# Altium footprint library TSQFP50P900X900X160-48N.PcbLib: 1 footprints
Each footprint in its own frame and in the unit in brackets; x right, y up, seen from the top. Pads: shape width x height; smd on the part's side, far side on the other; paste and mask are expansions set on the pad; w line width, h text height; cw(c..) or ccw(c..) is an arc to the next point about the centre after c.
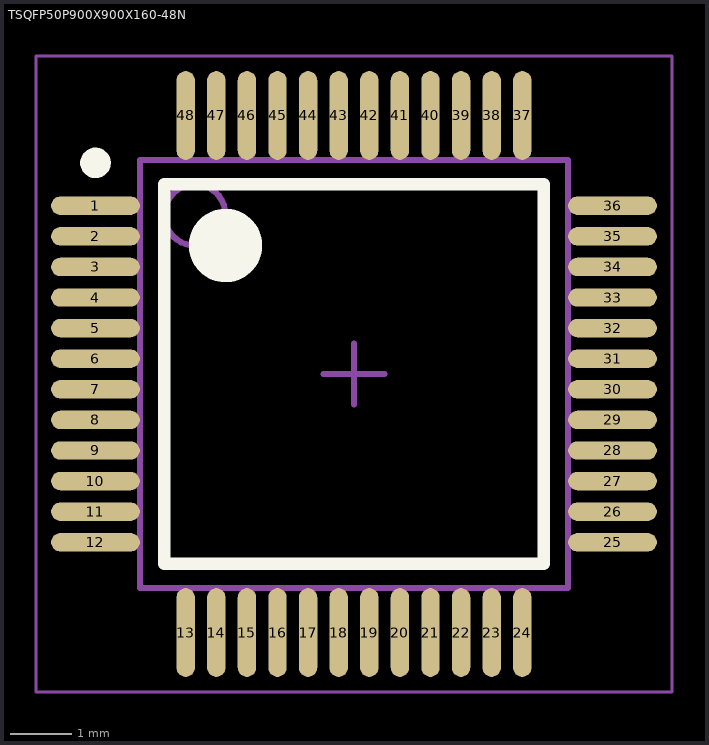
[diagram p0: the footprint, top view; thin cyan lines are the x and y axes]

## TSQFP50P900X900X160-48N [mm] "TSQFP, 48-Leads, Body 7.00x7.00mm, Pitch 0.50mm, IPC Medium Density"
height 1.6
pads (48):
  oval 1.45x0.3 smd: 1(-12.675,11.2) 2(-12.675,10.7) 3(-12.675,10.2) 4(-12.675,9.7) 5(-12.675,9.2) 6(-12.675,8.7) 7(-12.675,8.2) 8(-12.675,7.7) 9(-12.675,7.2) 10(-12.675,6.7) 11(-12.675,6.2) 12(-12.675,5.7) 25(-4.225,5.7) 26(-4.225,6.2) 27(-4.225,6.7) 28(-4.225,7.2) 29(-4.225,7.7) 30(-4.225,8.2) 31(-4.225,8.7) 32(-4.225,9.2) 33(-4.225,9.7) 34(-4.225,10.2) 35(-4.225,10.7) 36(-4.225,11.2)
  oval 0.3x1.45 smd: 13(-11.2,4.225) 14(-10.7,4.225) 15(-10.2,4.225) 16(-9.7,4.225) 17(-9.2,4.225) 18(-8.7,4.225) 19(-8.2,4.225) 20(-7.7,4.225) 21(-7.2,4.225) 22(-6.7,4.225) 23(-6.2,4.225) 24(-5.7,4.225) 37(-5.7,12.675) 38(-6.2,12.675) 39(-6.7,12.675) 40(-7.2,12.675) 41(-7.7,12.675) 42(-8.2,12.675) 43(-8.7,12.675) 44(-9.2,12.675) 45(-9.7,12.675) 46(-10.2,12.675) 47(-10.7,12.675) 48(-11.2,12.675)
Top Overlay:
  circle w0.6: c-10.55,10.55 r0.3
  circle w0.25: c-12.675,11.9 r0.125
  lines w0.2: -11.55,5.35 -5.35,5.35 -5.35,11.55 -11.55,11.55 -11.55,5.35
Top Assembly:
  circle w0.1: c-11.05,11.05 r0.5
  lines w0.1: -11.95,4.95 -4.95,4.95 -4.95,11.95 -11.95,11.95 -11.95,4.95
Top Courtyard:
  lines w0.05: -13.65,3.25 -3.25,3.25 -3.25,13.65 -13.65,13.65 -13.65,3.25
  lines w0.1: -8.95,8.45 -7.95,8.45 ; -8.45,7.95 -8.45,8.95
3D body: height 1.6, standoff 0.15, extent -11.95,4.95 -4.95,11.95